# EAGLE library part MQ_SENSOR_SOCKET (library Spark)
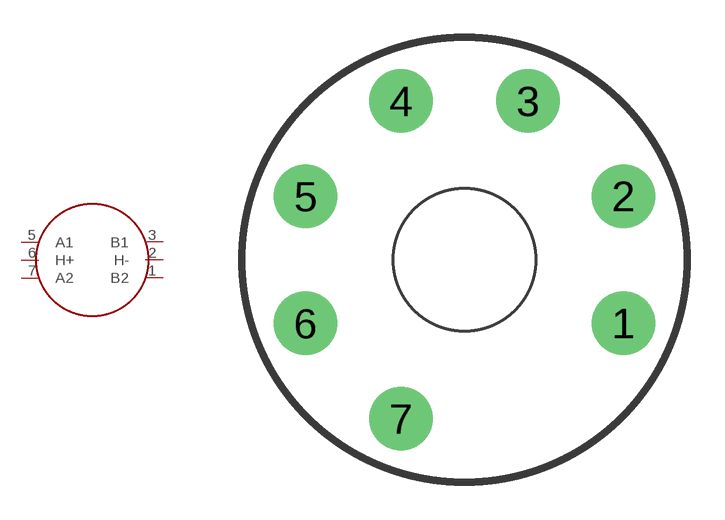
[diagram p9: symbol with the pads of MQ_SENSOR_SOCKET; footprint MQ_SENSOR_SOCKET]

Designator prefix -

## MQ_SENSOR_SOCKET  [MQ_SENSOR_SOCKET]
1  B2
2  H-
3  B1
5  A1
6  H+
7  A2

## Footprint MQ_SENSOR_SOCKET (pad centres in mm)
drill 1 pad 2.54: 1 6.35,-2.54; 2 6.35,2.54; 3 2.54,6.35; 4 -2.54,6.35; 5 -6.35,2.54; 6 -6.35,-2.54; 7 -2.54,-6.35